# Altium footprint library PCB - CONNECTOR - SAMTEC TFM-105-02-L-D-WT.PCBLIB: 1 footprints
Each footprint in its own frame and in the unit in brackets; x right, y up, seen from the top. Pads: shape width x height; smd on the part's side, far side on the other; paste and mask are expansions set on the pad; w line width, h text height; cw(c..) or ccw(c..) is an arc to the next point about the centre after c.
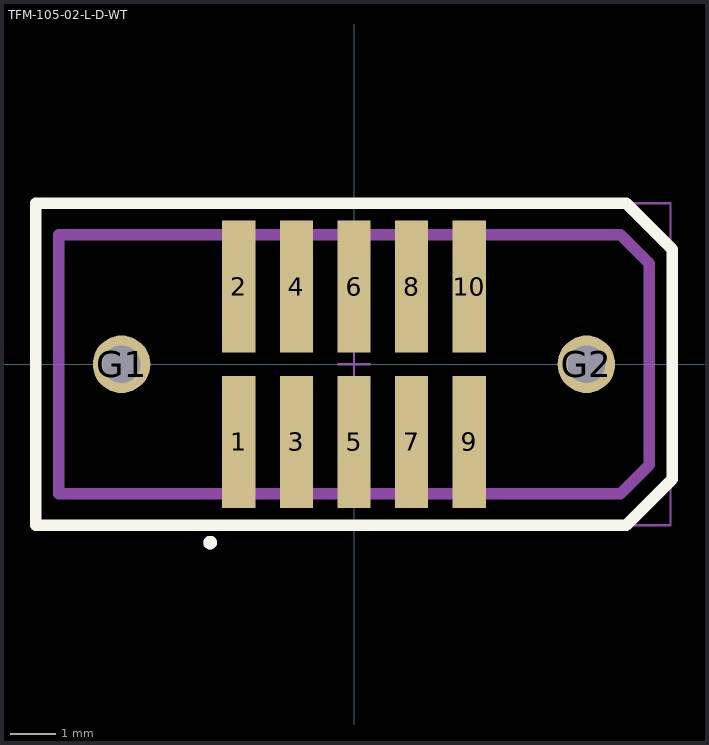
[diagram p0: the footprint, top view; thin cyan lines are the x and y axes]

## TFM-105-02-L-D-WT [mil]
pads (12):
  rect 29x115 smd mask+2: 1(-100,-67.5) 2(-100,67.5) 3(-50,-67.5) 4(-50,67.5) 5(0,-67.5) 6(0,67.5) 7(50,-67.5) 8(50,67.5) 9(100,-67.5) 10(100,67.5)
  round 50 hole 33 mask+3: G1(-202,0) G2(202,0)
Top Overlay:
  circle w7.87: c-125,-154.98 r1.97
  lines w10: -276.5,-140 236.5,-140 276.5,-100 276.5,100 236.5,140 -276.5,140 -276.5,-140
Top Assembly:
  circle w7.87: c-125,-154.98 r1.97
  lines w10: -256.5,-112.5 231.5,-112.5 256.5,-87.5 256.5,87.5 231.5,112.5 -256.5,112.5 -256.5,-112.5
Top Courtyard:
  lines w1.97: -275,-140 -275,140 275,140 275,-140 -275,-140
Top Designator:
  text ".Designator" at -49.57,-10 h30
Top Component Center:
  lines w1.97: -13.78,0 13.78,0 ; 0,-13.78 0,13.78
3D body "TFM-105-02-L-D-WT.stp": height 225.98, standoff -87.02, extent -256.5,-117.5 256.5,117.5